# Altium footprint library Header 14x2 RA.PcbLib: 1 footprints
Each footprint in its own frame and in the unit in brackets; x right, y up, seen from the top. Pads: shape width x height; smd on the part's side, far side on the other; paste and mask are expansions set on the pad; w line width, h text height; cw(c..) or ccw(c..) is an arc to the next point about the centre after c.
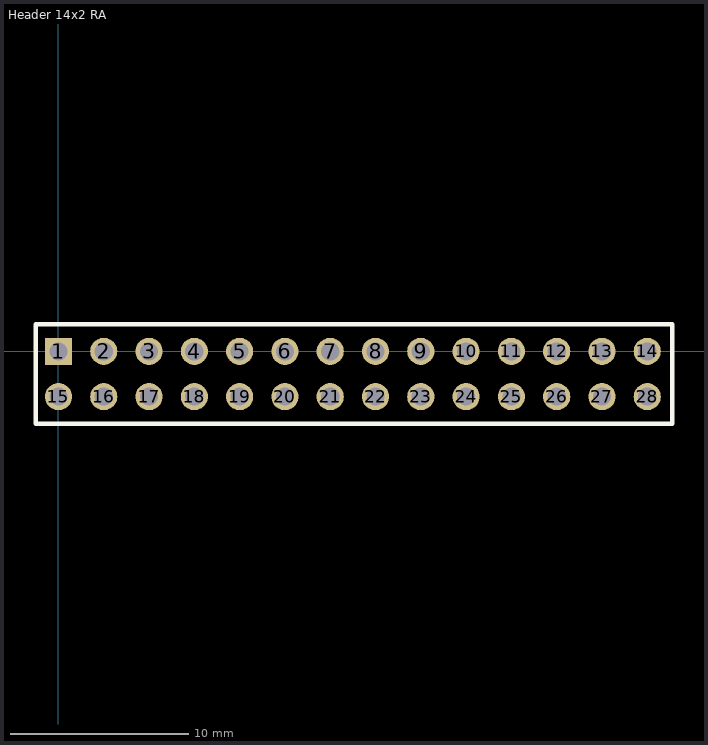
[diagram p0: the footprint, top view; thin cyan lines are the x and y axes]

## Header 14x2 RA [mil] "28pos-connector"
pads (28):
  rect 60x60 hole 40.16: 1(0,0)
  round 60 hole 40.16: 2(100,0) 3(200,0) 4(300,0) 5(400,0) 6(500,0) 7(600,0) 8(700,0) 9(800,0) 10(900,0) 11(1000,0) 12(1100,0) 13(1200,0) 14(1300,0) 15(0,-100) 16(100,-100) 17(200,-100) 18(300,-100) 19(400,-100) 20(500,-100) 21(600,-100) 22(700,-100) 23(800,-100) 24(900,-100) 25(1000,-100) 26(1100,-100) 27(1200,-100) 28(1300,-100)
Top Overlay:
  lines w10: -50,-160 -50,60 1355,60 1355,-160 -50,-160